# EAGLE library part RFM69HCW (library darknet_parts_library)
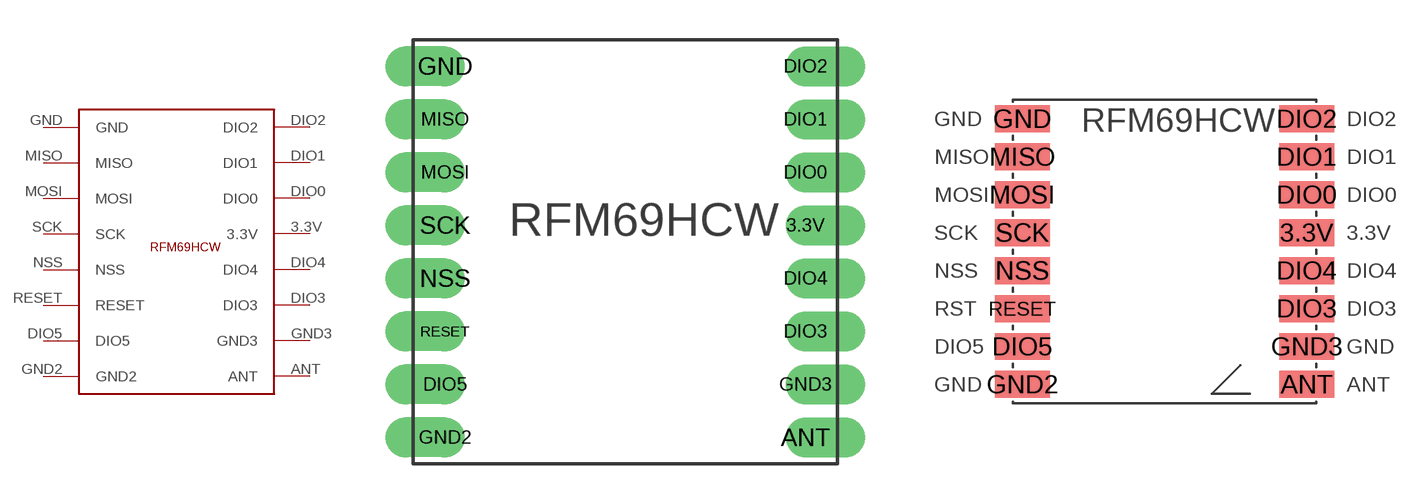
[diagram p4: symbol with the pads of 16PIN-PCB; footprints 16PIN-PCB, 16PIN-PCB-SMD]

Designator prefix -

## RFM69HCWRFM69HCW  [16PIN-PCB]
3.3V  3.3V
ANT  ANT
DIO0  DIO0
DIO1  DIO1
DIO2  DIO2
DIO3  DIO3
DIO4  DIO4
DIO5  DIO5
GND  GND
GND2  GND2
GND3  GND3
MISO  MISO
MOSI  MOSI
NSS  NSS
RESET  RESET
SCK  SCK

## RFM69HCWRFN69HCWSMD  [16PIN-PCB-SMD]
Pads as for 16PIN-PCB

## Footprint 16PIN-PCB (pad centres in mm)
drill 1 pad 1.422 offset: 3.3V 6.8,1; ANT 6.8,-7; DIO0 6.8,3; DIO1 6.8,5; DIO2 6.8,7; DIO3 6.8,-3; DIO4 6.8,-1; DIO5 -6.8,-5; GND -6.8,7; GND2 -6.8,-7; GND3 6.8,-5; MISO -6.8,5; MOSI -6.8,3; NSS -6.8,-1; RESET -6.8,-3; SCK -6.8,1

## Footprint 16PIN-PCB-SMD (pad centres in mm)
smd 2.9 x 1.422: 3.3V 7.5,1; ANT 7.5,-7; DIO0 7.5,3; DIO1 7.5,5; DIO2 7.5,7; DIO3 7.5,-3; DIO4 7.5,-1; DIO5 -7.5,-5; GND -7.5,7; GND2 -7.5,-7; GND3 7.5,-5; MISO -7.5,5; MOSI -7.5,3; NSS -7.5,-1; RESET -7.5,-3; SCK -7.5,1